# Altium footprint library DIOC - DIOdeChip.PcbLib: 41 footprints (part 1 of 3)
Each footprint in its own frame and in the unit in brackets; x right, y up, seen from the top. Pads: shape width x height; smd on the part's side, far side on the other; paste and mask are expansions set on the pad; w line width, h text height; cw(c..) or ccw(c..) is an arc to the next point about the centre after c.
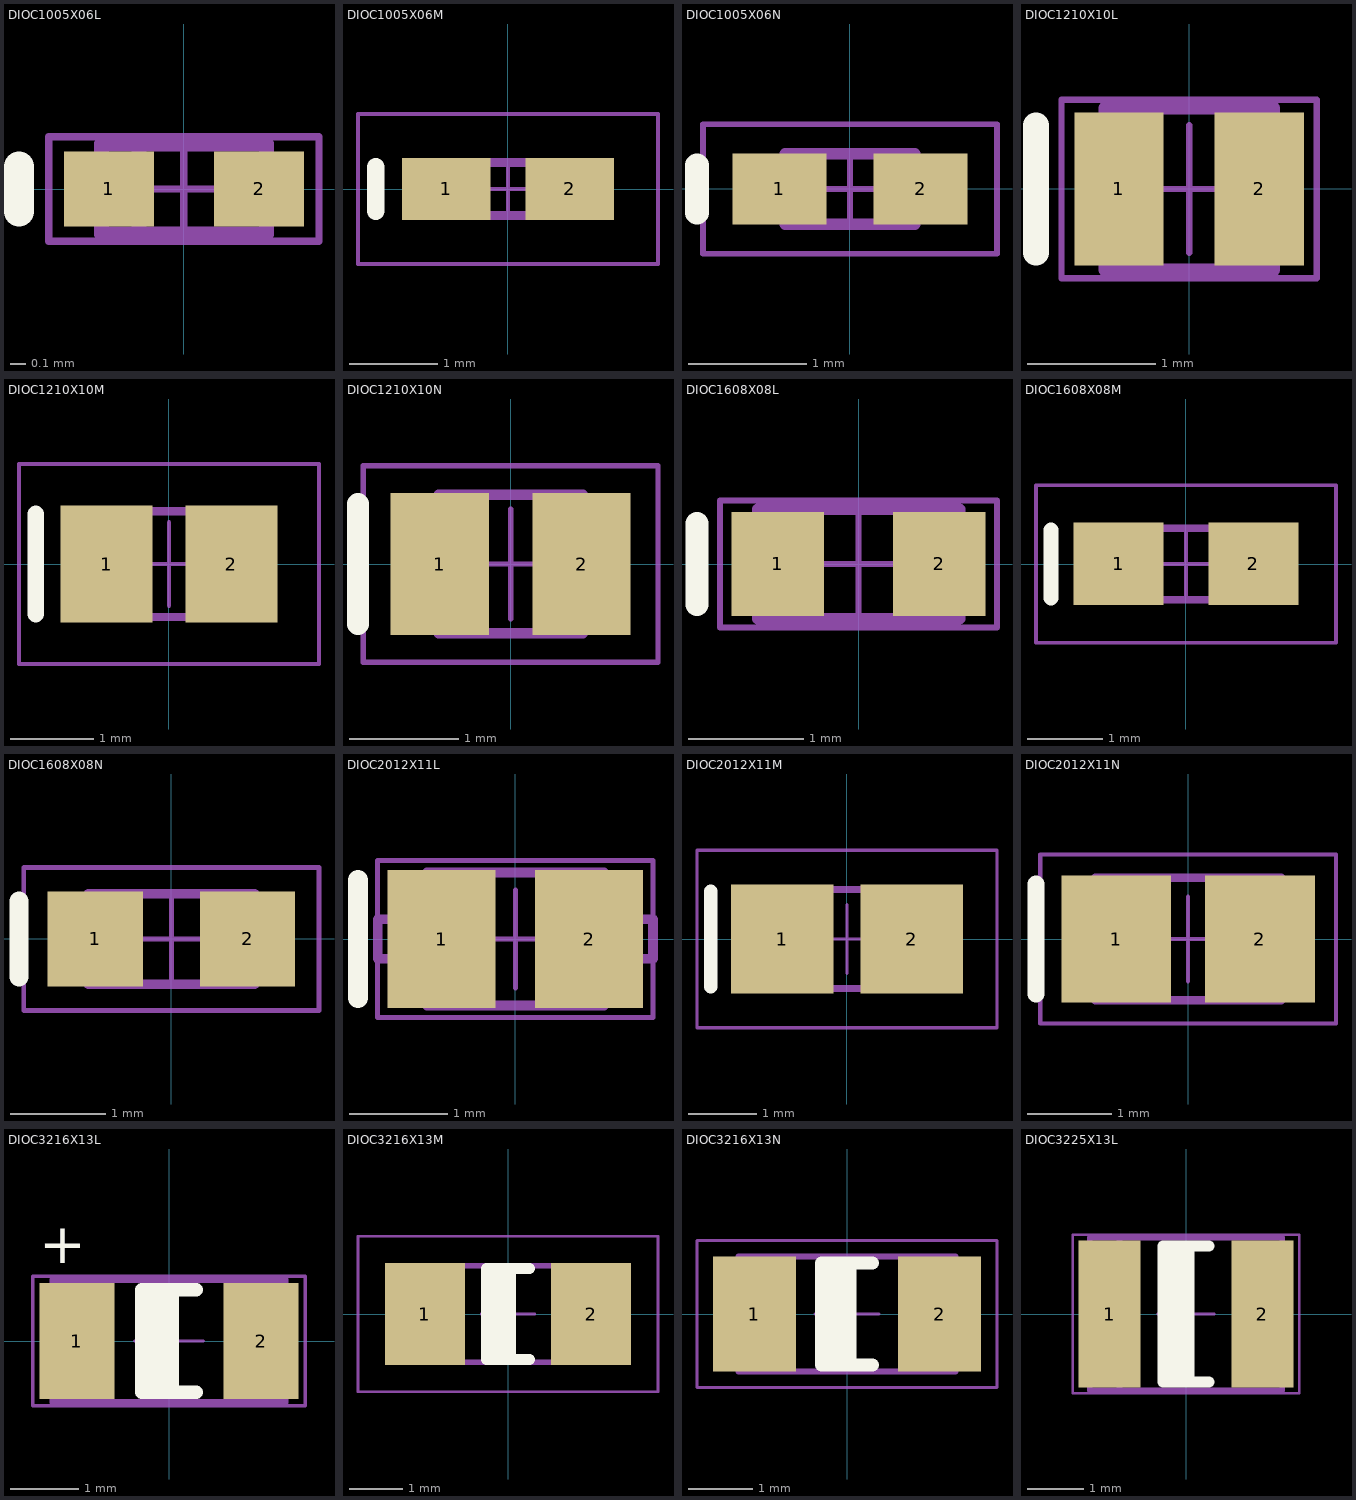
[diagram p0: the footprints below, top view; thin cyan lines are the x and y axes]

## DIOC1005X06L [mm] "Chip Diode, Body 1.0x0.5mm, IPC High Density"
height 0.6
pads (2):
  rect 0.6x0.5 smd: 1(-0.5,0) 2(0.5,0)
Top Overlay:
  lines w0.2: -1.1,-0.15 -1.1,0.15
TopBody:
  lines w0.1: -0.3,-0.3 -0.3,0.3 ; -0.55,-0.3 0.55,-0.3 0.55,0.3 -0.55,0.3 -0.55,-0.3
  text ".Designator" at -0.635,0.508 h0.5
TopCourtyard:
  lines w0.05: -0.3,0 0.3,0 ; 0,-0.3 0,0.3 ; -0.9,-0.35 -0.9,0.35 0.9,0.35 0.9,-0.35 -0.9,-0.35
3D body: height 0.6, standoff 0, extent -0.55,-0.3 0.55,0.3

## DIOC1005X06M [mm] "Chip Diode, Body 1.0x0.5mm, IPC Low Density"
height 0.6
pads (2):
  rect 1x0.7 smd: 1(-0.7,0) 2(0.7,0)
Top Overlay:
  lines w0.2: -1.5,-0.25 -1.5,0.25
TopBody:
  lines w0.1: -0.3,-0.3 -0.3,0.3 ; -0.55,-0.3 0.55,-0.3 0.55,0.3 -0.55,0.3 -0.55,-0.3
  text ".Designator" at -0.635,0.508 h0.5
TopCourtyard:
  lines w0.05: -0.3,0 0.3,0 ; 0,-0.3 0,0.3 ; -1.7,-0.85 1.7,-0.85 1.7,0.85 -1.7,0.85 -1.7,-0.85
3D body: height 0.6, standoff 0, extent -0.55,-0.3 0.55,0.3

## DIOC1005X06N [mm] "Chip Diode, Body 1.0x0.5mm, IPC Medium Density"
height 0.6
pads (2):
  rect 0.8x0.6 smd: 1(-0.6,0) 2(0.6,0)
Top Overlay:
  lines w0.2: -1.3,-0.2 -1.3,0.2
TopBody:
  lines w0.1: -0.3,-0.3 -0.3,0.3 ; -0.55,-0.3 -0.55,0.3 0.55,0.3 0.55,-0.3 -0.55,-0.3
  text ".Designator" at -0.635,0.508 h0.5
TopCourtyard:
  lines w0.05: -0.3,0 0.3,0 ; 0,-0.3 0,0.3 ; -1.25,-0.55 -1.25,0.55 1.25,0.55 1.25,-0.55 -1.25,-0.55
3D body: height 0.6, standoff 0, extent -0.55,-0.3 0.55,0.3

## DIOC1210X10L [mm] "Chip Diode, Body 1.2x1.0mm, IPC High Density"
height 1.02
pads (2):
  rect 0.7x1.2 smd: 1(-0.55,0) 2(0.55,0)
Top Overlay:
  lines w0.2: -1.2,-0.5 -1.2,0.5
TopBody:
  lines w0.1: -0.41,-0.635 -0.41,0.635 ; -0.66,-0.635 0.66,-0.635 0.66,0.635 -0.66,0.635 -0.66,-0.635
  text ".Designator" at -0.635,0.889 h0.5
TopCourtyard:
  lines w0.05: -0.5,0 0.5,0 ; 0,-0.5 0,0.5 ; -1,-0.7 1,-0.7 1,0.7 -1,0.7 -1,-0.7
3D body: height 1.02, standoff 0, extent -0.66,-0.635 0.66,0.635

## DIOC1210X10M [mm] "Chip Diode, Body 1.2x1.0mm, IPC Low Density"
height 1.02
pads (2):
  rect 1.1x1.4 smd: 1(-0.75,0) 2(0.75,0)
Top Overlay:
  lines w0.2: -1.6,-0.6 -1.6,0.6
TopBody:
  lines w0.1: -0.41,-0.635 -0.41,0.635 ; -0.66,-0.635 0.66,-0.635 0.66,0.635 -0.66,0.635 -0.66,-0.635
  text ".Designator" at -0.635,0.889 h0.5
TopCourtyard:
  lines w0.05: -0.5,0 0.5,0 ; 0,-0.5 0,0.5 ; -1.8,-1.2 1.8,-1.2 1.8,1.2 -1.8,1.2 -1.8,-1.2
3D body: height 1.02, standoff 0, extent -0.66,-0.635 0.66,0.635

## DIOC1210X10N [mm] "Chip Diode, Body 1.2x1.0mm, IPC Medium Density"
height 1.02
pads (2):
  rect 0.9x1.3 smd: 1(-0.65,0) 2(0.65,0)
Top Overlay:
  lines w0.2: -1.4,-0.55 -1.4,0.55
TopBody:
  lines w0.1: -0.41,-0.635 -0.41,0.635 ; -0.66,-0.635 0.66,-0.635 0.66,0.635 -0.66,0.635 -0.66,-0.635
  text ".Designator" at -0.635,0.889 h0.5
TopCourtyard:
  lines w0.05: -0.5,0 0.5,0 ; 0,-0.5 0,0.5 ; -1.35,-0.9 1.35,-0.9 1.35,0.9 -1.35,0.9 -1.35,-0.9
3D body: height 1.02, standoff 0, extent -0.66,-0.635 0.66,0.635

## DIOC1608X08L [mm] "Chip Diode, Body 1.6x0.8mm, IPC High Density"
height 0.85
pads (2):
  rect 0.8x0.9 smd: 1(-0.7,0) 2(0.7,0)
Top Overlay:
  lines w0.2: -1.4,-0.35 -1.4,0.35
TopBody:
  lines w0.1: -0.625,-0.475 -0.625,0.475 ; -0.875,-0.475 0.875,-0.475 0.875,0.475 -0.875,0.475 -0.875,-0.475
  text ".Designator" at -0.635,-0.254 h0.5
TopCourtyard:
  lines w0.05: -0.475,0 0.475,0 ; 0,-0.475 0,0.475 ; -1.2,-0.55 1.2,-0.55 1.2,0.55 -1.2,0.55 -1.2,-0.55
3D body: height 0.85, standoff 0, extent -0.875,-0.475 0.875,0.475

## DIOC1608X08M [mm] "Chip Diode, Body 1.6x0.8mm, IPC Low Density"
height 0.85
pads (2):
  rect 1.2x1.1 smd: 1(-0.9,0) 2(0.9,0)
Top Overlay:
  lines w0.2: -1.8,-0.45 -1.8,0.45
TopBody:
  lines w0.1: -0.625,-0.475 -0.625,0.475 ; -0.875,-0.475 0.875,-0.475 0.875,0.475 -0.875,0.475 -0.875,-0.475
  text ".Designator" at -0.635,-0.254 h0.5
TopCourtyard:
  lines w0.05: -0.475,0 0.475,0 ; 0,-0.475 0,0.475 ; -2,-1.05 2,-1.05 2,1.05 -2,1.05 -2,-1.05
3D body: height 0.85, standoff 0, extent -0.875,-0.475 0.875,0.475

## DIOC1608X08N [mm] "Chip Diode, Body 1.6x0.8mm, IPC Medium Density"
height 0.85
pads (2):
  rect 1x1 smd: 1(-0.8,0) 2(0.8,0)
Top Overlay:
  lines w0.2: -1.6,-0.4 -1.6,0.4
TopBody:
  lines w0.1: -0.625,-0.475 -0.625,0.475 ; -0.875,-0.475 -0.875,0.475 0.875,0.475 0.875,-0.475 -0.875,-0.475
  text ".Designator" at -0.635,-0.254 h0.5
TopCourtyard:
  lines w0.05: -0.475,0 0.475,0 ; 0,-0.475 0,0.475 ; -1.55,-0.75 -1.55,0.75 1.55,0.75 1.55,-0.75 -1.55,-0.75
3D body: height 0.85, standoff 0, extent -0.875,-0.475 0.875,0.475

## DIOC2012X11L [mm] "Chip Diode, Body 2.0x1.3mm, IPC High Density"
height 1.1
pads (2):
  rect 1.1x1.4 smd: 1(-0.75,0) 2(0.75,0)
Top Overlay:
  lines w0.2: -1.6,-0.6 -1.6,0.6
TopBody:
  lines w0.1: -0.9,-0.2 -1.4,-0.2 -1.4,0.2 -0.9,0.2 ; -0.635,-0.675 -0.635,0.675 ; 0.9,-0.2 1.4,-0.2 1.4,0.2 0.9,0.2 ; -0.9,-0.675 0.9,-0.675 0.9,0.675 -0.9,0.675 -0.9,-0.675
TopCourtyard:
  lines w0.05: -0.5,0 0.5,0 ; 0,-0.5 0,0.5 ; -1.4,-0.8 1.4,-0.8 1.4,0.8 -1.4,0.8 -1.4,-0.8
3D body: height 0.15, standoff 0, extent 0.9,-0.2 1.4,0.2
3D body: height 1.1, standoff 0, extent -0.9,-0.675 0.9,0.675

## DIOC2012X11M [mm] "Chip Diode, Body 2.0x1.3mm, IPC Low Density"
height 1.1
pads (2):
  rect 1.5x1.6 smd: 1(-0.95,0) 2(0.95,0)
Top Overlay:
  lines w0.2: -2,-0.7 -2,0.7
TopBody:
  lines w0.1: -0.85,-0.725 -0.85,0.725 ; -1.1,-0.725 1.1,-0.725 1.1,0.725 -1.1,0.725 -1.1,-0.725
  text ".Designator" at -0.635,-0.254 h0.5
TopCourtyard:
  lines w0.05: -0.5,0 0.5,0 ; 0,-0.5 0,0.5 ; -2.2,-1.3 2.2,-1.3 2.2,1.3 -2.2,1.3 -2.2,-1.3
3D body: height 1.1, standoff 0, extent -1.1,-0.725 1.1,0.725

## DIOC2012X11N [mm] "Chip Diode, Body 2.0x1.3mm, IPC Medium Density"
height 1.1
pads (2):
  rect 1.3x1.5 smd: 1(-0.85,0) 2(0.85,0)
Top Overlay:
  lines w0.2: -1.8,-0.65 -1.8,0.65
TopBody:
  lines w0.1: -0.85,-0.725 -0.85,0.725 ; -1.1,-0.725 -1.1,0.725 1.1,0.725 1.1,-0.725 -1.1,-0.725
  text ".Designator" at -0.635,-0.254 h0.5
TopCourtyard:
  lines w0.05: -0.5,0 0.5,0 ; 0,-0.5 0,0.5 ; -1.75,-1 -1.75,1 1.75,1 1.75,-1 -1.75,-1
3D body: height 1.1, standoff 0, extent -1.1,-0.725 1.1,0.725

## DIOC3216X13L [mm] "Chip Diode, Body 3.2x1.6mm, IPC High Density"
height 1.35
pads (2):
  rect 1.1x1.7 smd: 1(-1.35,0) 2(1.35,0)
Top Overlay:
  rectangle: -0.4,-0.75 0.15,0.75
  lines w0.2: 0.4,-0.75 -0.4,-0.75 -0.4,0.75 0.4,0.75
  text "+" at -1.905,1.143 h0.6
TopBody:
  lines w0.1: -1.175,-0.9 -1.175,0.9 ; -1.7,-0.9 1.7,-0.9 1.7,0.9 -1.7,0.9 -1.7,-0.9
  text ".Designator" at -0.635,-0.254 h0.5
TopCourtyard:
  lines w0.05: -0.5,0 0.5,0 ; 0,-0.5 0,0.5 ; -2,-0.95 2,-0.95 2,0.95 -2,0.95 -2,-0.95
3D body: height 1.35, standoff 0, extent -1.7,-0.9 1.7,0.9

## DIOC3216X13M [mm] "Chip Diode, Body 3.2x1.6mm, IPC Low Density"
height 1.35
pads (2):
  rect 1.5x1.9 smd: 1(-1.55,0) 2(1.55,0)
Top Overlay:
  rectangle: -0.4,-0.85 0.15,0.85
  lines w0.2: 0.4,-0.85 -0.4,-0.85 -0.4,0.85 0.4,0.85
TopBody:
  lines w0.1: -1.175,-0.9 -1.175,0.9 ; -1.7,-0.9 -1.7,0.9 1.7,0.9 1.7,-0.9 -1.7,-0.9
  text ".Designator" at -0.635,-0.254 h0.5
TopCourtyard:
  lines w0.05: -0.5,0 0.5,0 ; 0,-0.5 0,0.5 ; -2.8,-1.45 -2.8,1.45 2.8,1.45 2.8,-1.45 -2.8,-1.45
3D body: height 1.35, standoff 0, extent -1.7,-0.9 1.7,0.9

## DIOC3216X13N [mm] "Chip Diode, Body 3.2x1.6mm, IPC Medium Density"
height 1.35
pads (2):
  rect 1.3x1.8 smd: 1(-1.45,0) 2(1.45,0)
Top Overlay:
  rectangle: -0.4,-0.8 0.15,0.8
  lines w0.2: 0.4,-0.8 -0.4,-0.8 -0.4,0.8 0.4,0.8
TopBody:
  lines w0.1: -1.175,-0.9 -1.175,0.9 ; -1.7,-0.9 -1.7,0.9 1.7,0.9 1.7,-0.9 -1.7,-0.9
  text ".Designator" at -0.635,-0.254 h0.5
TopCourtyard:
  lines w0.05: -0.5,0 0.5,0 ; 0,-0.5 0,0.5 ; -2.35,-1.15 -2.35,1.15 2.35,1.15 2.35,-1.15 -2.35,-1.15
3D body: height 1.35, standoff 0, extent -1.7,-0.9 1.7,0.9

## DIOC3225X13L [mm] "Chip Diode, Body 3.2x2.5mm, IPC High Density"
height 1.35
pads (2):
  rect 1.1x2.6 smd: 1(-1.35,0) 2(1.35,0)
Top Overlay:
  rectangle: -0.4,-1.2 0.15,1.2
  lines w0.2: 0.4,-1.2 -0.4,-1.2 -0.4,1.2 0.4,1.2
TopBody:
  lines w0.1: -1.175,-1.35 -1.175,1.35 ; -1.7,-1.35 -1.7,1.35 1.7,1.35 1.7,-1.35 -1.7,-1.35
  text ".Designator" at -0.635,-0.254 h0.5
TopCourtyard:
  lines w0.05: -0.5,0 0.5,0 ; 0,-0.5 0,0.5 ; -2,-1.4 -2,1.4 2,1.4 2,-1.4 -2,-1.4
3D body: height 1.35, standoff 0, extent -1.7,-1.35 1.7,1.35